# Altium schematic symbol library Schlib1.SchLib: 28 symbols
Pins are listed as number, name and electrical type; pins without a type are passive.

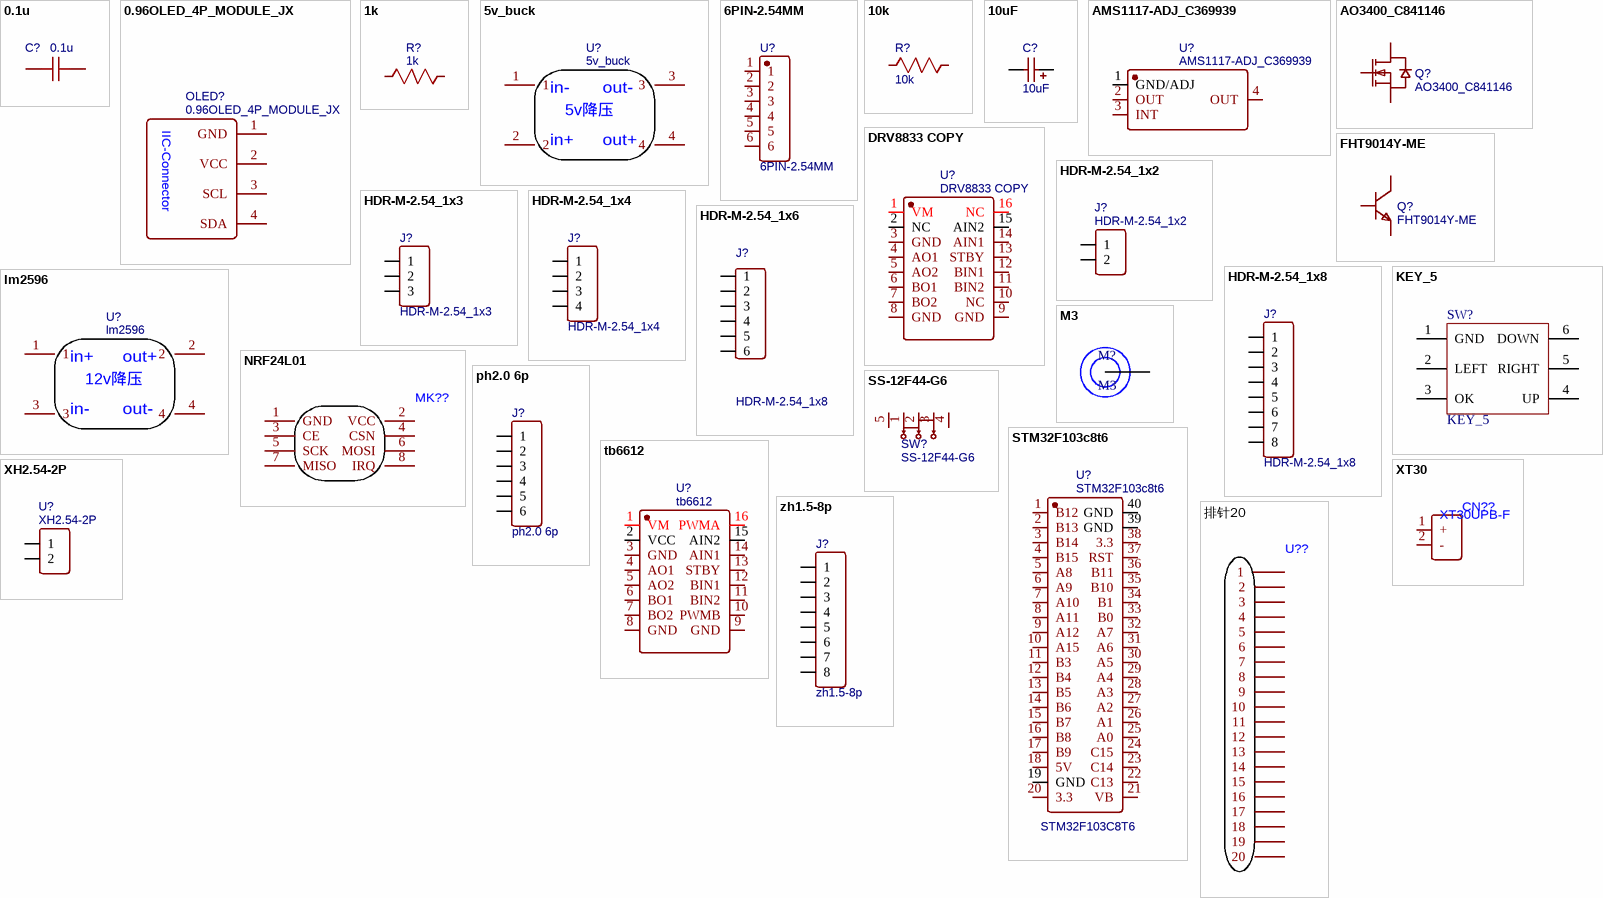
[diagram p0: symbols 0.1u to 排针20]

## 0.1u
designator C?
nameAlias: Value(F); Contributor: LCEDA_Lib; spicePre: C; spiceSymbolName: C_0805_US
footprint C0805
pins: 1, 2

## 0.96OLED_4P_MODULE_JX
designator OLED?
BOM_Manufacturer: null; Contributor: LCSC; BOM_Supplier: LCSC; BOM_Supplier Part: C9900004566; BOM_Manufacturer Part: 0.96OLED_4P_MODULE_JX; BOM_JLCPCB Part Class: Extended Part; spicePre: O; spiceSymbolName: 0.96OLED_4P_MODULE_JX
footprint 0.96OLED_4P
pins: 1 GND, 2 VCC, 3 SCL, 4 SDA
text: IIC-Connector

## 1k
designator R?
nameAlias: Value(Ω); Contributor: LCEDA_Lib; spicePre: R; spiceSymbolName: R_0603_US
footprint R0603
pins: 1, 2

## 5v_buck
designator U?
Contributor: fsxqn; spicePre: U; spiceSymbolName: 5v_buck
footprint 5V_BUCK
pins: 1, 2, 3, 4
text: in-; out-; 5v降压; in+; out+

## 6PIN-2.54MM
designator U?
BOM_Manufacturer: null; Contributor: lcsc; BOM_Supplier: LCSC; BOM_Supplier Part: C9900021155; BOM_Manufacturer Part: 6PIN-2.54MM; spicePre: U; spiceSymbolName: 6PIN-2.54MM
footprint CONN-TH_XH2.54-6P
pins: 1, 2, 3, 4, 5, 6

## 10k
designator R?
nameAlias: Value(Ω); Contributor: LCEDA_Lib; spicePre: R; spiceSymbolName: R_0603_US
footprint R0603
pins: 1, 2

## 10uF
designator C?
BOM_Manufacturer: Sunlord; BOM_Manufacturer Part: TC211A106M016Y; nameAlias: Capacitance; BOM_Supplier: LCSC; BOM_Supplier Part: C128289; BOM_JLCPCB Part Class: Extended Part; spicePre: C; spiceSymbolName: TC211A106M016Y
footprint CAP-SMD_L3.2-W1.6-R-RD
pins: 1, 2

## AMS1117-ADJ_C369939
designator U?
BOM_Manufacturer: KEXIN(科信); Contributor: LCSC; BOM_Supplier: LCSC; BOM_Supplier Part: C369939; BOM_Manufacturer Part: AMS1117-ADJ; BOM_JLCPCB Part Class: Extended Part; spicePre: U; spiceSymbolName: AMS1117-ADJ_C369939
footprint SOT-223_L6.5-W3.5-P2.30-LS7.0-BR
pins: 1 GND/ADJ, 2 OUT, 3 INT, 4 OUT

## AO3400_C841146
designator Q?
BOM_Manufacturer: LGE; BOM_Manufacturer Part: AO3400; Contributor: LCSC; BOM_Supplier: LCSC; BOM_Supplier Part: C841146; spicePre: Q; spiceSymbolName: AO3400_C841146
footprint SOT-23-3_L2.9-W1.3-P1.90-LS2.4-BR
pins: 1 G, 2 S, 3 D

## DRV8833 COPY
designator U?
Contributor: zxs865; spicePre: U; spiceSymbolName: DRV8833 COPY
footprint DRV8833
pins: 1 VM, 2 NC, 3 GND, 4 AO1, 5 AO2, 6 BO1, 7 BO2, 8 GND, 9 GND, 10 NC, 11 BIN2, 12 BIN1, 13 STBY, 14 AIN1, 15 AIN2, 16 NC

## FHT9014Y-ME
designator Q?
BOM_Manufacturer: FH; BOM_Supplier: LCSC; BOM_Manufacturer Part: FHT9014Y-ME; BOM_Supplier Part: C88861; BOM_JLCPCB Part Class: Extended Part; spicePre: Q; spiceSymbolName: FHT9014Y-ME
footprint SOT-23-3_L2.9-W1.3-P1.90-LS2.4-BR
pins: 1 B, 2 E, 3 C

## HDR-M-2.54_1x2
designator J?
Contributor: LCEDA_Lib; BOM_Supplier Part: C124375; BOM_Supplier: LCSC; spicePre: J; spiceSymbolName: HDR-M-2.54_1x2
footprint HDR-M-2.54_1X2
pins: 1, 2

## HDR-M-2.54_1x3
designator J?
Contributor: LCEDA_Lib; BOM_Supplier Part: C180248; BOM_Supplier: LCSC; spicePre: J; spiceSymbolName: HDR-M-2.54_1x3
footprint HDR-M-2.54_1X3
pins: 1, 2, 3

## HDR-M-2.54_1x4
designator J?
Contributor: LCEDA_Lib; BOM_Supplier Part: C124378; BOM_Supplier: LCSC; spicePre: J; spiceSymbolName: HDR-M-2.54_1x4
footprint HDR-M-2.54_1X4
pins: 1, 2, 3, 4

## HDR-M-2.54_1x6
designator J?, comment HDR-M-2.54_1x8
Contributor: LCEDA_Lib; BOM_Supplier Part: C190820; BOM_Supplier: LCSC; spicePre: J; spiceSymbolName: HDR-M-2.54_1x8
footprint HDR-M-2.54_1X6
pins: 1, 2, 3, 4, 5, 6

## HDR-M-2.54_1x8
designator J?
Contributor: LCEDA_Lib; BOM_Supplier Part: C190820; BOM_Supplier: LCSC; spicePre: J; spiceSymbolName: HDR-M-2.54_1x8
footprint HDR-M-2.54_1X8
pins: 1, 2, 3, 4, 5, 6, 7, 8

## KEY_5
designator SW?
五向导航按钮
footprint KEY_5 (五向导航按键)
pins: 1 GND, 2 LEFT, 3 OK, 4 UP, 5 RIGHT, 6 DOWN

## lm2596
designator U?
Contributor: fsxqn; spicePre: U; spiceSymbolName: 5v_buck
footprint LM2596S
pins: 1, 2, 3, 4
text: in+; out+; 12v降压; in-; out-

## M3
designator M?
footprint M3
pins: 1

## NRF24L01
designator MK??
footprint NRF24L01
pins: 1 GND, 2 VCC, 3 CE, 4 CSN, 5 SCK, 6 MOSI, 7 MISO, 8 IRQ

## ph2.0 6p
designator J?
Contributor: LCEDA_Lib; BOM_Supplier Part: C190819; BOM_Supplier: LCSC; spicePre: J; spiceSymbolName: HDR-M-2.54_1x6
footprint PH2.0-WI-6P
pins: 1, 2, 3, 4, 5, 6

## SS-12F44-G6
designator SW?
BOM_Manufacturer: USAKRO; Contributor: LCSC; BOM_Supplier: LCSC; BOM_Supplier Part: C698210; BOM_Manufacturer Part: SS-12F44-G6; BOM_JLCPCB Part Class: Extended Part; spicePre: S; spiceSymbolName: SS-12F44-G6
footprint SW-TH_SS-12F44-GX
pins: 1, 2, 3, 4, 5

## STM32F103c8t6
designator U?
Contributor: fsxqn; Package Display: Yes; spicePre: U; spiceSymbolName: STM32F103c8t6最小系统板
footprint stm32f103coreboard
pins: 1 B12, 2 B13, 3 B14, 4 B15, 5 A8, 6 A9, 7 A10, 8 A11, 9 A12, 10 A15, 11 B3, 12 B4, 13 B5, 14 B6, 15 B7, 16 B8, 17 B9, 18 5V, 19 GND, 20 3.3, 21 VB, 22 C13, 23 C14, 24 C15, 25 A0, 26 A1, 27 A2, 28 A3, 29 A4, 30 A5, 31 A6, 32 A7, 33 B0, 34 B1, 35 B10, 36 B11, 37 RST, 38 3.3, 39 GND, 40 GND
text: STM32F103C8T6

## tb6612
designator U?
Contributor: zxs865; spicePre: U; spiceSymbolName: DRV8833 COPY
footprint tb6612模块
pins: 1 VM, 2 VCC, 3 GND, 4 AO1, 5 AO2, 6 BO1, 7 BO2, 8 GND, 9 GND, 10 PWMB, 11 BIN2, 12 BIN1, 13 STBY, 14 AIN1, 15 AIN2, 16 PWMA

## XH2.54-2P
designator U?
Contributor: LCEDA_Lib; BOM_Supplier Part: C124375; BOM_Supplier: LCSC; spicePre: J; spiceSymbolName: HDR-M-2.54_1x2
footprint HDR-M-2.54_1X2
footprint XH2.54-2P
pins: 1, 2

## XT30
designator CN??, comment XT30UPB-F
footprint XT30
pins: 1 +, 2 -

## zh1.5-8p
designator J?
Contributor: LCEDA_Lib; BOM_Supplier Part: C190820; BOM_Supplier: LCSC; spicePre: J; spiceSymbolName: HDR-M-2.54_1x8
footprint ZH1.5-8P
pins: 1, 2, 3, 4, 5, 6, 7, 8

## 排针20
designator U??
footprint 排针20
pins: 1, 2, 3, 4, 5, 6, 7, 8, 9, 10, 11, 12, 13, 14, 15, 16, 17, 18, 19, 20